# Altium schematic symbol library WR-MPC3.SchLib: 235 symbols (part 1 of 5)
Pins are listed as number, name and electrical type; pins without a type are passive.

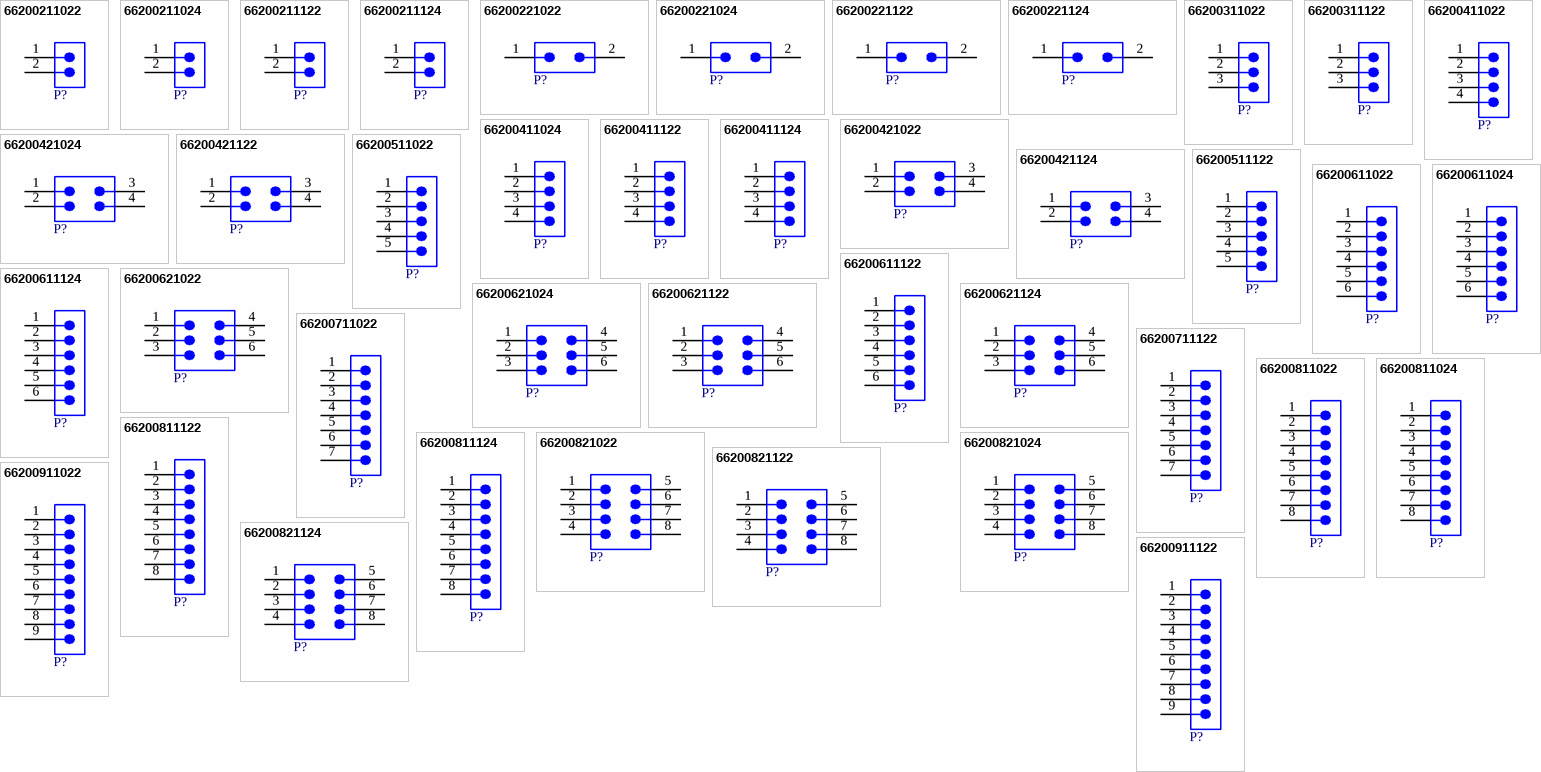
[diagram p0: symbols 66200211022 to 66200911122]

## 66200211022
designator P?  (value not drawn)
WR-MPC3 THT Male Right Angled Header with Plastic Pegs, pitch 3mm, 2p; Manufacturer: Wurth Elektronik; Contact Resistance: 10mOhm; Insulation Resistance: >1000MOhm; Rated Current: 5A; Working Voltage: 250V (AC); Manufacturer Part Number: 66200211022; Category: Wire-to-Board Connectors; Match Code: WR-MPC3; ComponentLink1Description: Website Link; ComponentLink1URL: https://www.we-online.com/redexpert/article/66200211022?ad; ComponentLink2Description: Datasheet Link; ComponentLink2URL: https://www.we-online.com/redexpert/spec/66200211022?ad; Mount: Through Hole; Operating Temperature Max: 105°C; Operating Temperature Min: -40°C; Packaging: Tube; Length: 9.65mm; Width: 9.9mm; Height: 5.57mm; Gender: Male; Number of Pins: 2; Number of Rows: 1; Orientation: Right Angled; Pitch: 3mm
footprint 66200211022
pins: 1, 2

## 66200211024
designator P?  (value not drawn)
WR-MPC3 THT Male Header Single Row Right Angled with Plastic Pegs (Selective Gold), pitch 3mm, 2p; Manufacturer: Wurth Elektronik; Contact Resistance: 10mOhm; Insulation Resistance: >1000MOhm; Rated Current: 5A; Working Voltage: 250V (AC); Manufacturer Part Number: 66200211024; Category: Wire-to-Board Connectors; Match Code: WR-MPC3; ComponentLink1Description: Website Link; ComponentLink1URL: https://www.we-online.com/redexpert/article/66200211024?ad; ComponentLink2Description: Datasheet Link; ComponentLink2URL: https://www.we-online.com/redexpert/spec/66200211024?ad; Mount: Through Hole; Operating Temperature Max: 105°C; Operating Temperature Min: -40°C; Packaging: Tube; Gender: Male; Number of Pins: 2; Number of Rows: 1; Orientation: Right Angled; Pitch: 3mm
footprint 66200211024
pins: 1, 2

## 66200211122
designator P?  (value not drawn)
WR-MPC3 THT Male Vertical Header, pitch 3mm, 2p; Manufacturer: Wurth Elektronik; Contact Resistance: 10mOhm; Insulation Resistance: >1000MOhm; Rated Current: 5A; Working Voltage: 250V (AC); Manufacturer Part Number: 66200211122; Category: Wire-to-Board Connectors; Match Code: WR-MPC3; ComponentLink1Description: Website Link; ComponentLink1URL: https://www.we-online.com/redexpert/article/66200211122?ad; ComponentLink2Description: Datasheet Link; ComponentLink2URL: https://www.we-online.com/redexpert/spec/66200211122?ad; Mount: Through Hole; Operating Temperature Max: 105°C; Operating Temperature Min: -40°C; Packaging: Tube; Length: 9.65mm; Width: 5.57mm; Height: 11mm; Gender: Male; Number of Pins: 2; Number of Rows: 1; Orientation: Vertical; Pitch: 3mm
footprint 66200211122
pins: 1, 2

## 66200211124
designator P?  (value not drawn)
WR-MPC3 THT Male Header Single Row Vertical (Selective Gold), pitch 3mm, 2p; Manufacturer: Wurth Elektronik; Contact Resistance: 10mOhm; Insulation Resistance: >1000MOhm; Rated Current: 5A; Working Voltage: 250V (AC); Manufacturer Part Number: 66200211124; Category: Wire-to-Board Connectors; Match Code: WR-MPC3; ComponentLink1Description: Website Link; ComponentLink1URL: https://www.we-online.com/redexpert/article/66200211124?ad; ComponentLink2Description: Datasheet Link; ComponentLink2URL: https://www.we-online.com/redexpert/spec/66200211124?ad; Mount: Through Hole; Operating Temperature Max: 105°C; Operating Temperature Min: -40°C; Packaging: Tube; Gender: Male; Number of Pins: 2; Number of Rows: 1; Orientation: Vertical; Pitch: 3mm
footprint 66200211124
pins: 1, 2

## 66200221022
designator P?  (value not drawn)
WR-MPC3 THT Male Right Angled Header with Plastic Pegs, pitch 3mm, 2p; Manufacturer: Wurth Elektronik; Contact Resistance: 10mOhm; Insulation Resistance: >1000MOhm; Rated Current: 5A; Working Voltage: 250V (AC); Manufacturer Part Number: 66200221022; Category: Wire-to-Board Connectors; Match Code: WR-MPC3; ComponentLink1Description: Website Link; ComponentLink1URL: https://www.we-online.com/redexpert/article/66200221022?ad; ComponentLink2Description: Datasheet Link; ComponentLink2URL: https://www.we-online.com/redexpert/spec/66200221022?ad; Mount: Through Hole; Operating Temperature Max: 105°C; Operating Temperature Min: -40°C; Packaging: Tube; Length: 6.7mm; Width: 9.9mm; Height: 8.76mm; Gender: Male; Number of Pins: 2; Number of Rows: 2; Orientation: Right Angled; Pitch: 3mm
footprint 66200221022
pins: 1, 2

## 66200221024
designator P?  (value not drawn)
WR-MPC3 THT Male Header Dual Row Right Angled with Plastic Pegs (Selective Gold), pitch 3mm, 2p; Manufacturer: Wurth Elektronik; Contact Resistance: 10mOhm; Insulation Resistance: >1000MOhm; Rated Current: 5A; Working Voltage: 250V (AC); Manufacturer Part Number: 66200221024; Category: Wire-to-Board Connectors; Match Code: WR-MPC3; ComponentLink1Description: Website Link; ComponentLink1URL: https://www.we-online.com/redexpert/article/66200221024?ad; ComponentLink2Description: Datasheet Link; ComponentLink2URL: https://www.we-online.com/redexpert/spec/66200221024?ad; Mount: Through Hole; Operating Temperature Max: 105°C; Operating Temperature Min: -40°C; Packaging: Tube; Gender: Male; Number of Pins: 2; Number of Rows: 2; Orientation: Right Angled; Pitch: 3mm
footprint 66200221024
pins: 1, 2

## 66200221122
designator P?  (value not drawn)
WR-MPC3 THT Male Vertical Header, pitch 3mm, 2p; Manufacturer: Wurth Elektronik; Contact Resistance: 10mOhm; Insulation Resistance: >1000MOhm; Rated Current: 5A; Working Voltage: 250V (AC); Manufacturer Part Number: 66200221122; Category: Wire-to-Board Connectors; Match Code: WR-MPC3; ComponentLink1Description: Website Link; ComponentLink1URL: https://www.we-online.com/redexpert/article/66200221122?ad; ComponentLink2Description: Datasheet Link; ComponentLink2URL: https://www.we-online.com/redexpert/spec/66200221122?ad; Mount: Through Hole; Operating Temperature Max: 105°C; Operating Temperature Min: -40°C; Packaging: Tube; Length: 6.7mm; Width: 8.76mm; Height: 11.05mm; Gender: Male; Number of Pins: 2; Number of Rows: 2; Orientation: Vertical; Pitch: 3mm
footprint 66200221122
pins: 1, 2

## 66200221124
designator P?  (value not drawn)
WR-MPC3 THT Male Header Dual Row Vertical (Selective Gold), pitch 3mm, 2p; Manufacturer: Wurth Elektronik; Contact Resistance: 10mOhm; Insulation Resistance: >1000MOhm; Rated Current: 5A; Working Voltage: 250V (AC); Manufacturer Part Number: 66200221124; Category: Wire-to-Board Connectors; Match Code: WR-MPC3; ComponentLink1Description: Website Link; ComponentLink1URL: https://www.we-online.com/redexpert/article/66200221124?ad; ComponentLink2Description: Datasheet Link; ComponentLink2URL: https://www.we-online.com/redexpert/spec/66200221124?ad; Mount: Through Hole; Operating Temperature Max: 105°C; Operating Temperature Min: -40°C; Packaging: Tube; Gender: Male; Number of Pins: 2; Number of Rows: 2; Orientation: Vertical; Pitch: 3mm
footprint 66200221124
pins: 1, 2

## 66200311022
designator P?  (value not drawn)
WR-MPC3 THT Male Right Angled Header with Plastic Pegs, pitch 3mm, 3p; Manufacturer: Wurth Elektronik; Contact Resistance: 10mOhm; Insulation Resistance: >1000MOhm; Rated Current: 5A; Working Voltage: 250V (AC); Manufacturer Part Number: 66200311022; Category: Wire-to-Board Connectors; Match Code: WR-MPC3; ComponentLink1Description: Website Link; ComponentLink1URL: https://www.we-online.com/redexpert/article/66200311022?ad; ComponentLink2Description: Datasheet Link; ComponentLink2URL: https://www.we-online.com/redexpert/spec/66200311022?ad; Mount: Through Hole; Operating Temperature Max: 105°C; Operating Temperature Min: -40°C; Packaging: Tube; Length: 12.65mm; Width: 9.9mm; Height: 5.57mm; Gender: Male; Number of Pins: 3; Number of Rows: 1; Orientation: Right Angled; Pitch: 3mm
footprint 66200311022
pins: 1, 2, 3

## 66200311122
designator P?  (value not drawn)
WR-MPC3 THT Male Vertical Header, pitch 3mm, 3p; Manufacturer: Wurth Elektronik; Contact Resistance: 10mOhm; Insulation Resistance: >1000MOhm; Rated Current: 5A; Working Voltage: 250V (AC); Manufacturer Part Number: 66200311122; Category: Wire-to-Board Connectors; Match Code: WR-MPC3; ComponentLink1Description: Website Link; ComponentLink1URL: https://www.we-online.com/redexpert/article/66200311122?ad; ComponentLink2Description: Datasheet Link; ComponentLink2URL: https://www.we-online.com/redexpert/spec/66200311122?ad; Mount: Through Hole; Operating Temperature Max: 105°C; Operating Temperature Min: -40°C; Packaging: Tube; Length: 12.65mm; Width: 5.57mm; Height: 11mm; Gender: Male; Number of Pins: 3; Number of Rows: 1; Orientation: Vertical; Pitch: 3mm
footprint 66200311122
pins: 1, 2, 3

## 66200411022
designator P?  (value not drawn)
WR-MPC3 THT Male Right Angled Header with Plastic Pegs, pitch 3mm, 4p; Manufacturer: Wurth Elektronik; Contact Resistance: 10mOhm; Insulation Resistance: >1000MOhm; Rated Current: 5A; Working Voltage: 250V (AC); Manufacturer Part Number: 66200411022; Category: Wire-to-Board Connectors; Match Code: WR-MPC3; ComponentLink1Description: Website Link; ComponentLink1URL: https://www.we-online.com/redexpert/article/66200411022?ad; ComponentLink2Description: Datasheet Link; ComponentLink2URL: https://www.we-online.com/redexpert/spec/66200411022?ad; Mount: Through Hole; Operating Temperature Max: 105°C; Operating Temperature Min: -40°C; Packaging: Tube; Length: 15.65mm; Width: 9.9mm; Height: 5.57mm; Gender: Male; Number of Pins: 4; Number of Rows: 1; Orientation: Right Angled; Pitch: 3mm
footprint 66200411022
pins: 1, 2, 3, 4

## 66200411024
designator P?  (value not drawn)
WR-MPC3 THT Male Header Single Row Right Angled with Plastic Pegs (Selective Gold), pitch 3mm, 4p; Manufacturer: Wurth Elektronik; Contact Resistance: 10mOhm; Insulation Resistance: >1000MOhm; Rated Current: 5A; Working Voltage: 250V (AC); Manufacturer Part Number: 66200411024; Category: Wire-to-Board Connectors; Match Code: WR-MPC3; ComponentLink1Description: Website Link; ComponentLink1URL: https://www.we-online.com/redexpert/article/66200411024?ad; ComponentLink2Description: Datasheet Link; ComponentLink2URL: https://www.we-online.com/redexpert/spec/66200411024?ad; Mount: Through Hole; Operating Temperature Max: 105°C; Operating Temperature Min: -40°C; Packaging: Tube; Gender: Male; Number of Pins: 4; Number of Rows: 1; Orientation: Right Angled; Pitch: 3mm
footprint 66200411024
pins: 1, 2, 3, 4

## 66200411122
designator P?  (value not drawn)
WR-MPC3 THT Male Vertical Header, pitch 3mm, 4p; Manufacturer: Wurth Elektronik; Contact Resistance: 10mOhm; Insulation Resistance: >1000MOhm; Rated Current: 5A; Working Voltage: 250V (AC); Manufacturer Part Number: 66200411122; Category: Wire-to-Board Connectors; Match Code: WR-MPC3; ComponentLink1Description: Website Link; ComponentLink1URL: https://www.we-online.com/redexpert/article/66200411122?ad; ComponentLink2Description: Datasheet Link; ComponentLink2URL: https://www.we-online.com/redexpert/spec/66200411122?ad; Mount: Through Hole; Operating Temperature Max: 105°C; Operating Temperature Min: -40°C; Packaging: Tube; Length: 15.65mm; Width: 5.57mm; Height: 11mm; Gender: Male; Number of Pins: 4; Number of Rows: 1; Orientation: Vertical; Pitch: 3mm
footprint 66200411122
pins: 1, 2, 3, 4

## 66200411124
designator P?  (value not drawn)
WR-MPC3 THT Male Header Single Row Vertical (Selective Gold), pitch 3mm, 4p; Manufacturer: Wurth Elektronik; Contact Resistance: 10mOhm; Insulation Resistance: >1000MOhm; Rated Current: 5A; Working Voltage: 250V (AC); Manufacturer Part Number: 66200411124; Category: Wire-to-Board Connectors; Match Code: WR-MPC3; ComponentLink1Description: Website Link; ComponentLink1URL: https://www.we-online.com/redexpert/article/66200411124?ad; ComponentLink2Description: Datasheet Link; ComponentLink2URL: https://www.we-online.com/redexpert/spec/66200411124?ad; Mount: Through Hole; Operating Temperature Max: 105°C; Operating Temperature Min: -40°C; Packaging: Tube; Gender: Male; Number of Pins: 4; Number of Rows: 1; Orientation: Vertical; Pitch: 3mm
footprint 66200411124
pins: 1, 2, 3, 4

## 66200421022
designator P?  (value not drawn)
WR-MPC3 THT Male Right Angled Header with Plastic Pegs, pitch 3mm, 4p; Manufacturer: Wurth Elektronik; Contact Resistance: 10mOhm; Insulation Resistance: >1000MOhm; Rated Current: 5A; Working Voltage: 250V (AC); Manufacturer Part Number: 66200421022; Category: Wire-to-Board Connectors; Match Code: WR-MPC3; ComponentLink1Description: Website Link; ComponentLink1URL: https://www.we-online.com/redexpert/article/66200421022?ad; ComponentLink2Description: Datasheet Link; ComponentLink2URL: https://www.we-online.com/redexpert/spec/66200421022?ad; Mount: Through Hole; Operating Temperature Max: 105°C; Operating Temperature Min: -40°C; Packaging: Tube; Length: 9.7mm; Width: 9.9mm; Height: 8.76mm; Gender: Male; Number of Pins: 4; Number of Rows: 2; Orientation: Right Angled; Pitch: 3mm
footprint 66200421022
pins: 1, 2, 3, 4

## 66200421024
designator P?  (value not drawn)
WR-MPC3 THT Male Header Dual Row Right Angled with Plastic Pegs (Selective Gold), pitch 3mm, 4p; Manufacturer: Wurth Elektronik; Contact Resistance: 10mOhm; Insulation Resistance: >1000MOhm; Rated Current: 5A; Working Voltage: 250V (AC); Manufacturer Part Number: 66200421024; Category: Wire-to-Board Connectors; Match Code: WR-MPC3; ComponentLink1Description: Website Link; ComponentLink1URL: https://www.we-online.com/redexpert/article/66200421024?ad; ComponentLink2Description: Datasheet Link; ComponentLink2URL: https://www.we-online.com/redexpert/spec/66200421024?ad; Mount: Through Hole; Operating Temperature Max: 105°C; Operating Temperature Min: -40°C; Packaging: Tube; Gender: Male; Number of Pins: 4; Number of Rows: 2; Orientation: Right Angled; Pitch: 3mm
footprint 66200421024
pins: 1, 2, 3, 4

## 66200421122
designator P?  (value not drawn)
WR-MPC3 THT Male Vertical Header, pitch 3mm, 4p; Manufacturer: Wurth Elektronik; Contact Resistance: 10mOhm; Insulation Resistance: >1000MOhm; Rated Current: 5A; Working Voltage: 250V (AC); Manufacturer Part Number: 66200421122; Category: Wire-to-Board Connectors; Match Code: WR-MPC3; ComponentLink1Description: Website Link; ComponentLink1URL: https://www.we-online.com/redexpert/article/66200421122?ad; ComponentLink2Description: Datasheet Link; ComponentLink2URL: https://www.we-online.com/redexpert/spec/66200421122?ad; Mount: Through Hole; Operating Temperature Max: 105°C; Operating Temperature Min: -40°C; Packaging: Tube; Length: 9.7mm; Width: 8.76mm; Height: 11.05mm; Gender: Male; Number of Pins: 4; Number of Rows: 2; Orientation: Vertical; Pitch: 3mm
footprint 66200421122
pins: 1, 2, 3, 4

## 66200421124
designator P?  (value not drawn)
WR-MPC3 THT Male Header Dual Row Vertical (Selective Gold), pitch 3mm, 4p; Manufacturer: Wurth Elektronik; Contact Resistance: 10mOhm; Insulation Resistance: >1000MOhm; Rated Current: 5A; Working Voltage: 250V (AC); Manufacturer Part Number: 66200421124; Category: Wire-to-Board Connectors; Match Code: WR-MPC3; ComponentLink1Description: Website Link; ComponentLink1URL: https://www.we-online.com/redexpert/article/66200421124?ad; ComponentLink2Description: Datasheet Link; ComponentLink2URL: https://www.we-online.com/redexpert/spec/66200421124?ad; Mount: Through Hole; Operating Temperature Max: 105°C; Operating Temperature Min: -40°C; Packaging: Tube; Gender: Male; Number of Pins: 4; Number of Rows: 2; Orientation: Vertical; Pitch: 3mm
footprint 66200421124
pins: 1, 2, 3, 4

## 66200511022
designator P?  (value not drawn)
WR-MPC3 THT Male Right Angled Header with Plastic Pegs, pitch 3mm, 5p; Manufacturer: Wurth Elektronik; Contact Resistance: 10mOhm; Insulation Resistance: >1000MOhm; Rated Current: 5A; Working Voltage: 250V (AC); Manufacturer Part Number: 66200511022; Category: Wire-to-Board Connectors; Match Code: WR-MPC3; ComponentLink1Description: Website Link; ComponentLink1URL: https://www.we-online.com/redexpert/article/66200511022?ad; ComponentLink2Description: Datasheet Link; ComponentLink2URL: https://www.we-online.com/redexpert/spec/66200511022?ad; Mount: Through Hole; Operating Temperature Max: 105°C; Operating Temperature Min: -40°C; Packaging: Tube; Length: 18.65mm; Width: 9.9mm; Height: 5.57mm; Gender: Male; Number of Pins: 5; Number of Rows: 1; Orientation: Right Angled; Pitch: 3mm
footprint 66200511022
pins: 1, 2, 3, 4, 5

## 66200511122
designator P?  (value not drawn)
WR-MPC3 THT Male Vertical Header, pitch 3mm, 5p; Manufacturer: Wurth Elektronik; Contact Resistance: 10mOhm; Insulation Resistance: >1000MOhm; Rated Current: 5A; Working Voltage: 250V (AC); Manufacturer Part Number: 66200511122; Category: Wire-to-Board Connectors; Match Code: WR-MPC3; ComponentLink1Description: Website Link; ComponentLink1URL: https://www.we-online.com/redexpert/article/66200511122?ad; ComponentLink2Description: Datasheet Link; ComponentLink2URL: https://www.we-online.com/redexpert/spec/66200511122?ad; Mount: Through Hole; Operating Temperature Max: 105°C; Operating Temperature Min: -40°C; Packaging: Tube; Length: 18.65mm; Width: 5.57mm; Height: 11mm; Gender: Male; Number of Pins: 5; Number of Rows: 1; Orientation: Vertical; Pitch: 3mm
footprint 66200511122
pins: 1, 2, 3, 4, 5

## 66200611022
designator P?  (value not drawn)
WR-MPC3 THT Male Right Angled Header with Plastic Pegs, pitch 3mm, 6p; Manufacturer: Wurth Elektronik; Contact Resistance: 10mOhm; Insulation Resistance: >1000MOhm; Rated Current: 5A; Working Voltage: 250V (AC); Manufacturer Part Number: 66200611022; Category: Wire-to-Board Connectors; Match Code: WR-MPC3; ComponentLink1Description: Website Link; ComponentLink1URL: https://www.we-online.com/redexpert/article/66200611022?ad; ComponentLink2Description: Datasheet Link; ComponentLink2URL: https://www.we-online.com/redexpert/spec/66200611022?ad; Mount: Through Hole; Operating Temperature Max: 105°C; Operating Temperature Min: -40°C; Packaging: Tube; Length: 21.65mm; Width: 9.9mm; Height: 5.57mm; Gender: Male; Number of Pins: 6; Number of Rows: 1; Orientation: Right Angled; Pitch: 3mm
footprint 66200611022
pins: 1, 2, 3, 4, 5, 6

## 66200611024
designator P?  (value not drawn)
WR-MPC3 THT Male Header Single Row Right Angled with Plastic Pegs (Selective Gold), pitch 3mm, 6p; Manufacturer: Wurth Elektronik; Contact Resistance: 10mOhm; Insulation Resistance: >1000MOhm; Rated Current: 5A; Working Voltage: 250V (AC); Manufacturer Part Number: 66200611024; Category: Wire-to-Board Connectors; Match Code: WR-MPC3; ComponentLink1Description: Website Link; ComponentLink1URL: https://www.we-online.com/redexpert/article/66200611024?ad; ComponentLink2Description: Datasheet Link; ComponentLink2URL: https://www.we-online.com/redexpert/spec/66200611024?ad; Mount: Through Hole; Operating Temperature Max: 105°C; Operating Temperature Min: -40°C; Packaging: Tube; Gender: Male; Number of Pins: 6; Number of Rows: 1; Orientation: Right Angled; Pitch: 3mm
footprint 66200611024
pins: 1, 2, 3, 4, 5, 6

## 66200611122
designator P?  (value not drawn)
WR-MPC3 THT Male Vertical Header, pitch 3mm, 6p; Manufacturer: Wurth Elektronik; Contact Resistance: 10mOhm; Insulation Resistance: >1000MOhm; Rated Current: 5A; Working Voltage: 250V (AC); Manufacturer Part Number: 66200611122; Category: Wire-to-Board Connectors; Match Code: WR-MPC3; ComponentLink1Description: Website Link; ComponentLink1URL: https://www.we-online.com/redexpert/article/66200611122?ad; ComponentLink2Description: Datasheet Link; ComponentLink2URL: https://www.we-online.com/redexpert/spec/66200611122?ad; Mount: Through Hole; Operating Temperature Max: 105°C; Operating Temperature Min: -40°C; Packaging: Tube; Length: 21.65mm; Width: 5.57mm; Height: 11mm; Gender: Male; Number of Pins: 6; Number of Rows: 1; Orientation: Vertical; Pitch: 3mm
footprint 66200611122
pins: 1, 2, 3, 4, 5, 6

## 66200611124
designator P?  (value not drawn)
WR-MPC3 THT Male Header Single Row Vertical (Selective Gold), pitch 3mm, 6p; Manufacturer: Wurth Elektronik; Contact Resistance: 10mOhm; Insulation Resistance: >1000MOhm; Rated Current: 5A; Working Voltage: 250V (AC); Manufacturer Part Number: 66200611124; Category: Wire-to-Board Connectors; Match Code: WR-MPC3; ComponentLink1Description: Website Link; ComponentLink1URL: https://www.we-online.com/redexpert/article/66200611124?ad; ComponentLink2Description: Datasheet Link; ComponentLink2URL: https://www.we-online.com/redexpert/spec/66200611124?ad; Mount: Through Hole; Operating Temperature Max: 105°C; Operating Temperature Min: -40°C; Packaging: Tube; Gender: Male; Number of Pins: 6; Number of Rows: 1; Orientation: Vertical; Pitch: 3mm
footprint 66200611124
pins: 1, 2, 3, 4, 5, 6

## 66200621022
designator P?  (value not drawn)
WR-MPC3 THT Male Right Angled Header with Plastic Pegs, pitch 3mm, 6p; Manufacturer: Wurth Elektronik; Contact Resistance: 10mOhm; Insulation Resistance: >1000MOhm; Rated Current: 5A; Working Voltage: 250V (AC); Manufacturer Part Number: 66200621022; Category: Wire-to-Board Connectors; Match Code: WR-MPC3; ComponentLink1Description: Website Link; ComponentLink1URL: https://www.we-online.com/redexpert/article/66200621022?ad; ComponentLink2Description: Datasheet Link; ComponentLink2URL: https://www.we-online.com/redexpert/spec/66200621022?ad; Mount: Through Hole; Operating Temperature Max: 105°C; Operating Temperature Min: -40°C; Packaging: Tube; Length: 12.7mm; Width: 9.9mm; Height: 8.76mm; Gender: Male; Number of Pins: 6; Number of Rows: 2; Orientation: Right Angled; Pitch: 3mm
footprint 66200621022
pins: 1, 2, 3, 4, 5, 6

## 66200621024
designator P?  (value not drawn)
WR-MPC3 THT Male Header Dual Row Right Angled with Plastic Pegs (Selective Gold), pitch 3mm, 6p; Manufacturer: Wurth Elektronik; Contact Resistance: 10mOhm; Insulation Resistance: >1000MOhm; Rated Current: 5A; Working Voltage: 250V (AC); Manufacturer Part Number: 66200621024; Category: Wire-to-Board Connectors; Match Code: WR-MPC3; ComponentLink1Description: Website Link; ComponentLink1URL: https://www.we-online.com/redexpert/article/66200621024?ad; ComponentLink2Description: Datasheet Link; ComponentLink2URL: https://www.we-online.com/redexpert/spec/66200621024?ad; Mount: Through Hole; Operating Temperature Max: 105°C; Operating Temperature Min: -40°C; Packaging: Tube; Gender: Male; Number of Pins: 6; Number of Rows: 2; Orientation: Right Angled; Pitch: 3mm
footprint 66200621024
pins: 1, 2, 3, 4, 5, 6

## 66200621122
designator P?  (value not drawn)
WR-MPC3 THT Male Vertical Header, pitch 3mm, 6p; Manufacturer: Wurth Elektronik; Contact Resistance: 10mOhm; Insulation Resistance: >1000MOhm; Rated Current: 5A; Working Voltage: 250V (AC); Manufacturer Part Number: 66200621122; Category: Wire-to-Board Connectors; Match Code: WR-MPC3; ComponentLink1Description: Website Link; ComponentLink1URL: https://www.we-online.com/redexpert/article/66200621122?ad; ComponentLink2Description: Datasheet Link; ComponentLink2URL: https://www.we-online.com/redexpert/spec/66200621122?ad; Mount: Through Hole; Operating Temperature Max: 105°C; Operating Temperature Min: -40°C; Packaging: Tube; Length: 12.7mm; Width: 8.76mm; Height: 11.05mm; Gender: Male; Number of Pins: 6; Number of Rows: 2; Orientation: Vertical; Pitch: 3mm
footprint 66200621122
pins: 1, 2, 3, 4, 5, 6

## 66200621124
designator P?  (value not drawn)
WR-MPC3 THT Male Header Dual Row Vertical (Selective Gold), pitch 3mm, 6p; Manufacturer: Wurth Elektronik; Contact Resistance: 10mOhm; Insulation Resistance: >1000MOhm; Rated Current: 5A; Working Voltage: 250V (AC); Manufacturer Part Number: 66200621124; Category: Wire-to-Board Connectors; Match Code: WR-MPC3; ComponentLink1Description: Website Link; ComponentLink1URL: https://www.we-online.com/redexpert/article/66200621124?ad; ComponentLink2Description: Datasheet Link; ComponentLink2URL: https://www.we-online.com/redexpert/spec/66200621124?ad; Mount: Through Hole; Operating Temperature Max: 105°C; Operating Temperature Min: -40°C; Packaging: Tube; Gender: Male; Number of Pins: 6; Number of Rows: 2; Orientation: Vertical; Pitch: 3mm
footprint 66200621124
pins: 1, 2, 3, 4, 5, 6

## 66200711022
designator P?  (value not drawn)
WR-MPC3 THT Male Right Angled Header with Plastic Pegs, pitch 3mm, 7p; Manufacturer: Wurth Elektronik; Contact Resistance: 10mOhm; Insulation Resistance: >1000MOhm; Rated Current: 5A; Working Voltage: 250V (AC); Manufacturer Part Number: 66200711022; Category: Wire-to-Board Connectors; Match Code: WR-MPC3; ComponentLink1Description: Website Link; ComponentLink1URL: https://www.we-online.com/redexpert/article/66200711022?ad; ComponentLink2Description: Datasheet Link; ComponentLink2URL: https://www.we-online.com/redexpert/spec/66200711022?ad; Mount: Through Hole; Operating Temperature Max: 105°C; Operating Temperature Min: -40°C; Packaging: Tube; Length: 24.65mm; Width: 9.9mm; Height: 5.57mm; Gender: Male; Number of Pins: 7; Number of Rows: 1; Orientation: Right Angled; Pitch: 3mm
footprint 66200711022
pins: 1, 2, 3, 4, 5, 6, 7

## 66200711122
designator P?  (value not drawn)
WR-MPC3 THT Male Vertical Header, pitch 3mm, 7p; Manufacturer: Wurth Elektronik; Contact Resistance: 10mOhm; Insulation Resistance: >1000MOhm; Rated Current: 5A; Working Voltage: 250V (AC); Manufacturer Part Number: 66200711122; Category: Wire-to-Board Connectors; Match Code: WR-MPC3; ComponentLink1Description: Website Link; ComponentLink1URL: https://www.we-online.com/redexpert/article/66200711122?ad; ComponentLink2Description: Datasheet Link; ComponentLink2URL: https://www.we-online.com/redexpert/spec/66200711122?ad; Mount: Through Hole; Operating Temperature Max: 105°C; Operating Temperature Min: -40°C; Packaging: Tube; Length: 24.65mm; Width: 5.57mm; Height: 11mm; Gender: Male; Number of Pins: 7; Number of Rows: 1; Orientation: Vertical; Pitch: 3mm
footprint 66200711122
pins: 1, 2, 3, 4, 5, 6, 7

## 66200811022
designator P?  (value not drawn)
WR-MPC3 THT Male Right Angled Header with Plastic Pegs, pitch 3mm, 8p; Manufacturer: Wurth Elektronik; Contact Resistance: 10mOhm; Insulation Resistance: >1000MOhm; Rated Current: 5A; Working Voltage: 250V (AC); Manufacturer Part Number: 66200811022; Category: Wire-to-Board Connectors; Match Code: WR-MPC3; ComponentLink1Description: Website Link; ComponentLink1URL: https://www.we-online.com/redexpert/article/66200811022?ad; ComponentLink2Description: Datasheet Link; ComponentLink2URL: https://www.we-online.com/redexpert/spec/66200811022?ad; Mount: Through Hole; Operating Temperature Max: 105°C; Operating Temperature Min: -40°C; Packaging: Tube; Length: 27.65mm; Width: 9.9mm; Height: 5.57mm; Gender: Male; Number of Pins: 8; Number of Rows: 1; Orientation: Right Angled; Pitch: 3mm
footprint 66200811022
pins: 1, 2, 3, 4, 5, 6, 7, 8

## 66200811024
designator P?  (value not drawn)
WR-MPC3 THT Male Header Single Row Right Angled with Plastic Pegs (Selective Gold), pitch 3mm, 8p; Manufacturer: Wurth Elektronik; Contact Resistance: 10mOhm; Insulation Resistance: >1000MOhm; Rated Current: 5A; Working Voltage: 250V (AC); Manufacturer Part Number: 66200811024; Category: Wire-to-Board Connectors; Match Code: WR-MPC3; ComponentLink1Description: Website Link; ComponentLink1URL: https://www.we-online.com/redexpert/article/66200811024?ad; ComponentLink2Description: Datasheet Link; ComponentLink2URL: https://www.we-online.com/redexpert/spec/66200811024?ad; Mount: Through Hole; Operating Temperature Max: 105°C; Operating Temperature Min: -40°C; Packaging: Tube; Gender: Male; Number of Pins: 8; Number of Rows: 1; Orientation: Right Angled; Pitch: 3mm
footprint 66200811024
pins: 1, 2, 3, 4, 5, 6, 7, 8

## 66200811122
designator P?  (value not drawn)
WR-MPC3 THT Male Vertical Header, pitch 3mm, 8p; Manufacturer: Wurth Elektronik; Contact Resistance: 10mOhm; Insulation Resistance: >1000MOhm; Rated Current: 5A; Working Voltage: 250V (AC); Manufacturer Part Number: 66200811122; Category: Wire-to-Board Connectors; Match Code: WR-MPC3; ComponentLink1Description: Website Link; ComponentLink1URL: https://www.we-online.com/redexpert/article/66200811122?ad; ComponentLink2Description: Datasheet Link; ComponentLink2URL: https://www.we-online.com/redexpert/spec/66200811122?ad; Mount: Through Hole; Operating Temperature Max: 105°C; Operating Temperature Min: -40°C; Packaging: Tube; Length: 27.65mm; Width: 5.57mm; Height: 11mm; Gender: Male; Number of Pins: 8; Number of Rows: 1; Orientation: Vertical; Pitch: 3mm
footprint 66200811122
pins: 1, 2, 3, 4, 5, 6, 7, 8

## 66200811124
designator P?  (value not drawn)
WR-MPC3 THT Male Header Single Row Vertical (Selective Gold), pitch 3mm, 8p; Manufacturer: Wurth Elektronik; Contact Resistance: 10mOhm; Insulation Resistance: >1000MOhm; Rated Current: 5A; Working Voltage: 250V (AC); Manufacturer Part Number: 66200811124; Category: Wire-to-Board Connectors; Match Code: WR-MPC3; ComponentLink1Description: Website Link; ComponentLink1URL: https://www.we-online.com/redexpert/article/66200811124?ad; ComponentLink2Description: Datasheet Link; ComponentLink2URL: https://www.we-online.com/redexpert/spec/66200811124?ad; Mount: Through Hole; Operating Temperature Max: 105°C; Operating Temperature Min: -40°C; Packaging: Tube; Gender: Male; Number of Pins: 8; Number of Rows: 1; Orientation: Vertical; Pitch: 3mm
footprint 66200811124
pins: 1, 2, 3, 4, 5, 6, 7, 8

## 66200821022
designator P?  (value not drawn)
WR-MPC3 THT Male Right Angled Header with Plastic Pegs, pitch 3mm, 8p; Manufacturer: Wurth Elektronik; Contact Resistance: 10mOhm; Insulation Resistance: >1000MOhm; Rated Current: 5A; Working Voltage: 250V (AC); Manufacturer Part Number: 66200821022; Category: Wire-to-Board Connectors; Match Code: WR-MPC3; ComponentLink1Description: Website Link; ComponentLink1URL: https://www.we-online.com/redexpert/article/66200821022?ad; ComponentLink2Description: Datasheet Link; ComponentLink2URL: https://www.we-online.com/redexpert/spec/66200821022?ad; Mount: Through Hole; Operating Temperature Max: 105°C; Operating Temperature Min: -40°C; Packaging: Tube; Length: 15.7mm; Width: 9.9mm; Height: 8.76mm; Gender: Male; Number of Pins: 8; Number of Rows: 2; Orientation: Right Angled; Pitch: 3mm
footprint 66200821022
pins: 1, 2, 3, 4, 5, 6, 7, 8

## 66200821024
designator P?  (value not drawn)
WR-MPC3 THT Male Header Dual Row Right Angled with Plastic Pegs (Selective Gold), pitch 3mm, 8p; Manufacturer: Wurth Elektronik; Contact Resistance: 10mOhm; Insulation Resistance: >1000MOhm; Rated Current: 5A; Working Voltage: 250V (AC); Manufacturer Part Number: 66200821024; Category: Wire-to-Board Connectors; Match Code: WR-MPC3; ComponentLink1Description: Website Link; ComponentLink1URL: https://www.we-online.com/redexpert/article/66200821024?ad; ComponentLink2Description: Datasheet Link; ComponentLink2URL: https://www.we-online.com/redexpert/spec/66200821024?ad; Mount: Through Hole; Operating Temperature Max: 105°C; Operating Temperature Min: -40°C; Packaging: Tube; Gender: Male; Number of Pins: 8; Number of Rows: 2; Orientation: Right Angled; Pitch: 3mm
footprint 66200821024
pins: 1, 2, 3, 4, 5, 6, 7, 8

## 66200821122
designator P?  (value not drawn)
WR-MPC3 THT Male Vertical Header, pitch 3mm, 8p; Manufacturer: Wurth Elektronik; Contact Resistance: 10mOhm; Insulation Resistance: >1000MOhm; Rated Current: 5A; Working Voltage: 250V (AC); Manufacturer Part Number: 66200821122; Category: Wire-to-Board Connectors; Match Code: WR-MPC3; ComponentLink1Description: Website Link; ComponentLink1URL: https://www.we-online.com/redexpert/article/66200821122?ad; ComponentLink2Description: Datasheet Link; ComponentLink2URL: https://www.we-online.com/redexpert/spec/66200821122?ad; Mount: Through Hole; Operating Temperature Max: 105°C; Operating Temperature Min: -40°C; Packaging: Tube; Length: 15.7mm; Width: 8.76mm; Height: 11.05mm; Gender: Male; Number of Pins: 8; Number of Rows: 2; Orientation: Vertical; Pitch: 3mm
footprint 66200821122
pins: 1, 2, 3, 4, 5, 6, 7, 8

## 66200821124
designator P?  (value not drawn)
WR-MPC3 THT Male Header Dual Row Vertical (Selective Gold), pitch 3mm, 8p; Manufacturer: Wurth Elektronik; Contact Resistance: 10mOhm; Insulation Resistance: >1000MOhm; Rated Current: 5A; Working Voltage: 250V (AC); Manufacturer Part Number: 66200821124; Category: Wire-to-Board Connectors; Match Code: WR-MPC3; ComponentLink1Description: Website Link; ComponentLink1URL: https://www.we-online.com/redexpert/article/66200821124?ad; ComponentLink2Description: Datasheet Link; ComponentLink2URL: https://www.we-online.com/redexpert/spec/66200821124?ad; Mount: Through Hole; Operating Temperature Max: 105°C; Operating Temperature Min: -40°C; Packaging: Tube; Gender: Male; Number of Pins: 8; Number of Rows: 2; Orientation: Vertical; Pitch: 3mm
footprint 66200821124
pins: 1, 2, 3, 4, 5, 6, 7, 8

## 66200911022
designator P?  (value not drawn)
WR-MPC3 THT Male Right Angled Header with Plastic Pegs, pitch 3mm, 9p; Manufacturer: Wurth Elektronik; Contact Resistance: 10mOhm; Insulation Resistance: >1000MOhm; Rated Current: 5A; Working Voltage: 250V (AC); Manufacturer Part Number: 66200911022; Category: Wire-to-Board Connectors; Match Code: WR-MPC3; ComponentLink1Description: Website Link; ComponentLink1URL: https://www.we-online.com/redexpert/article/66200911022?ad; ComponentLink2Description: Datasheet Link; ComponentLink2URL: https://www.we-online.com/redexpert/spec/66200911022?ad; Mount: Through Hole; Operating Temperature Max: 105°C; Operating Temperature Min: -40°C; Packaging: Tube; Length: 30.65mm; Width: 9.9mm; Height: 5.57mm; Gender: Male; Number of Pins: 9; Number of Rows: 1; Orientation: Right Angled; Pitch: 3mm
footprint 66200911022
pins: 1, 2, 3, 4, 5, 6, 7, 8, 9

## 66200911122
designator P?  (value not drawn)
WR-MPC3 THT Male Vertical Header, pitch 3mm, 9p; Manufacturer: Wurth Elektronik; Contact Resistance: 10mOhm; Insulation Resistance: >1000MOhm; Rated Current: 5A; Working Voltage: 250V (AC); Manufacturer Part Number: 66200911122; Category: Wire-to-Board Connectors; Match Code: WR-MPC3; ComponentLink1Description: Website Link; ComponentLink1URL: https://www.we-online.com/redexpert/article/66200911122?ad; ComponentLink2Description: Datasheet Link; ComponentLink2URL: https://www.we-online.com/redexpert/spec/66200911122?ad; Mount: Through Hole; Operating Temperature Max: 105°C; Operating Temperature Min: -40°C; Packaging: Tube; Length: 30.65mm; Width: 5.57mm; Height: 11mm; Gender: Male; Number of Pins: 9; Number of Rows: 1; Orientation: Vertical; Pitch: 3mm
footprint 66200911122
pins: 1, 2, 3, 4, 5, 6, 7, 8, 9

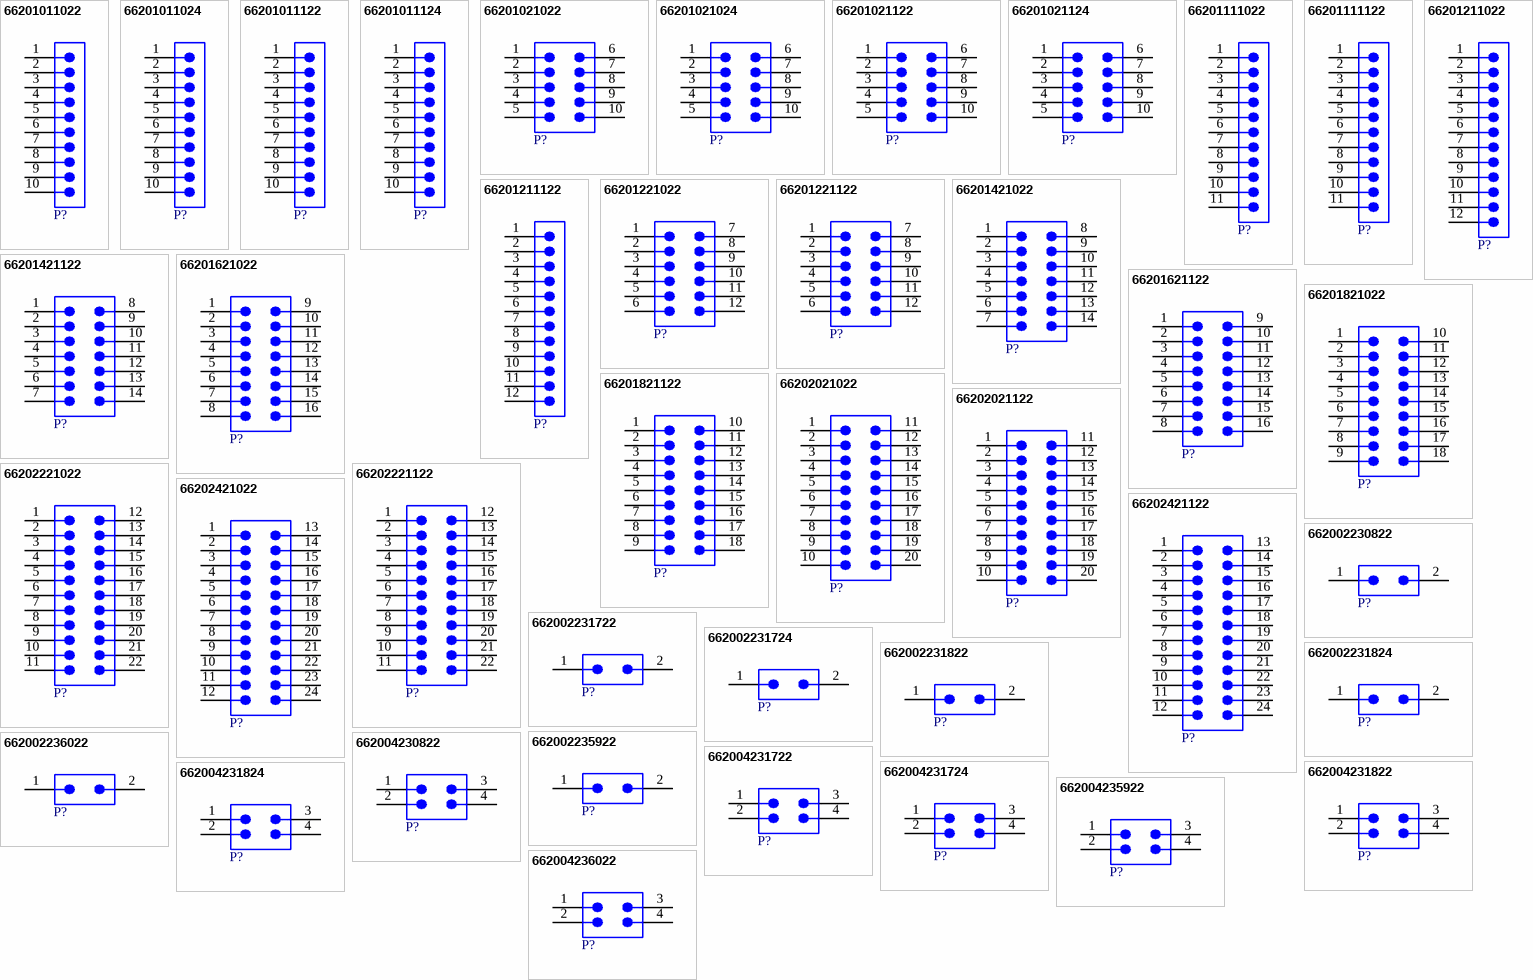
[diagram p1: symbols 66201011022 to 662004236022]

## 66201011022
designator P?  (value not drawn)
WR-MPC3 THT Male Right Angled Header with Plastic Pegs, pitch 3mm, 10p; Manufacturer: Wurth Elektronik; Contact Resistance: 10mOhm; Insulation Resistance: >1000MOhm; Rated Current: 5A; Working Voltage: 250V (AC); Manufacturer Part Number: 66201011022; Category: Wire-to-Board Connectors; Match Code: WR-MPC3; ComponentLink1Description: Website Link; ComponentLink1URL: https://www.we-online.com/redexpert/article/66201011022?ad; ComponentLink2Description: Datasheet Link; ComponentLink2URL: https://www.we-online.com/redexpert/spec/66201011022?ad; Mount: Through Hole; Operating Temperature Max: 105°C; Operating Temperature Min: -40°C; Packaging: Tube; Length: 33.65mm; Width: 9.9mm; Height: 5.57mm; Gender: Male; Number of Pins: 10; Number of Rows: 1; Orientation: Right Angled; Pitch: 3mm
footprint 66201011022
pins: 1, 2, 3, 4, 5, 6, 7, 8, 9, 10

## 66201011024
designator P?  (value not drawn)
WR-MPC3 THT Male Header Single Row Right Angled with Plastic Pegs (Selective Gold), pitch 3mm, 10p; Manufacturer: Wurth Elektronik; Contact Resistance: 10mOhm; Insulation Resistance: >1000MOhm; Rated Current: 5A; Working Voltage: 250V (AC); Manufacturer Part Number: 66201011024; Category: Wire-to-Board Connectors; Match Code: WR-MPC3; ComponentLink1Description: Website Link; ComponentLink1URL: https://www.we-online.com/redexpert/article/66201011024?ad; ComponentLink2Description: Datasheet Link; ComponentLink2URL: https://www.we-online.com/redexpert/spec/66201011024?ad; Mount: Through Hole; Operating Temperature Max: 105°C; Operating Temperature Min: -40°C; Packaging: Tube; Gender: Male; Number of Pins: 10; Number of Rows: 1; Orientation: Right Angled; Pitch: 3mm
footprint 66201011024
pins: 1, 2, 3, 4, 5, 6, 7, 8, 9, 10

## 66201011122
designator P?  (value not drawn)
WR-MPC3 THT Male Vertical Header, pitch 3mm, 10p; Manufacturer: Wurth Elektronik; Contact Resistance: 10mOhm; Insulation Resistance: >1000MOhm; Rated Current: 5A; Working Voltage: 250V (AC); Manufacturer Part Number: 66201011122; Category: Wire-to-Board Connectors; Match Code: WR-MPC3; ComponentLink1Description: Website Link; ComponentLink1URL: https://www.we-online.com/redexpert/article/66201011122?ad; ComponentLink2Description: Datasheet Link; ComponentLink2URL: https://www.we-online.com/redexpert/spec/66201011122?ad; Mount: Through Hole; Operating Temperature Max: 105°C; Operating Temperature Min: -40°C; Packaging: Tube; Length: 33.65mm; Width: 5.57mm; Height: 11mm; Gender: Male; Number of Pins: 10; Number of Rows: 1; Orientation: Vertical; Pitch: 3mm
footprint 66201011122
pins: 1, 2, 3, 4, 5, 6, 7, 8, 9, 10

## 66201011124
designator P?  (value not drawn)
WR-MPC3 THT Male Header Single Row Vertical (Selective Gold), pitch 3mm, 10p; Manufacturer: Wurth Elektronik; Contact Resistance: 10mOhm; Insulation Resistance: >1000MOhm; Rated Current: 5A; Working Voltage: 250V (AC); Manufacturer Part Number: 66201011124; Category: Wire-to-Board Connectors; Match Code: WR-MPC3; ComponentLink1Description: Website Link; ComponentLink1URL: https://www.we-online.com/redexpert/article/66201011124?ad; ComponentLink2Description: Datasheet Link; ComponentLink2URL: https://www.we-online.com/redexpert/spec/66201011124?ad; Mount: Through Hole; Operating Temperature Max: 105°C; Operating Temperature Min: -40°C; Packaging: Tube; Gender: Male; Number of Pins: 10; Number of Rows: 1; Orientation: Vertical; Pitch: 3mm
footprint 66201011124
pins: 1, 2, 3, 4, 5, 6, 7, 8, 9, 10

## 66201021022
designator P?  (value not drawn)
WR-MPC3 THT Male Right Angled Header with Plastic Pegs, pitch 3mm, 10p; Manufacturer: Wurth Elektronik; Contact Resistance: 10mOhm; Insulation Resistance: >1000MOhm; Rated Current: 5A; Working Voltage: 250V (AC); Manufacturer Part Number: 66201021022; Category: Wire-to-Board Connectors; Match Code: WR-MPC3; ComponentLink1Description: Website Link; ComponentLink1URL: https://www.we-online.com/redexpert/article/66201021022?ad; ComponentLink2Description: Datasheet Link; ComponentLink2URL: https://www.we-online.com/redexpert/spec/66201021022?ad; Mount: Through Hole; Operating Temperature Max: 105°C; Operating Temperature Min: -40°C; Packaging: Tube; Length: 18.7mm; Width: 9.9mm; Height: 8.76mm; Gender: Male; Number of Pins: 10; Number of Rows: 2; Orientation: Right Angled; Pitch: 3mm
footprint 66201021022
pins: 1, 2, 3, 4, 5, 6, 7, 8, 9, 10

## 66201021024
designator P?  (value not drawn)
WR-MPC3 THT Male Header Dual Row Right Angled with Plastic Pegs (Selective Gold), pitch 3mm, 10p; Manufacturer: Wurth Elektronik; Contact Resistance: 10mOhm; Insulation Resistance: >1000MOhm; Rated Current: 5A; Working Voltage: 250V (AC); Manufacturer Part Number: 66201021024; Category: Wire-to-Board Connectors; Match Code: WR-MPC3; ComponentLink1Description: Website Link; ComponentLink1URL: https://www.we-online.com/redexpert/article/66201021024?ad; ComponentLink2Description: Datasheet Link; ComponentLink2URL: https://www.we-online.com/redexpert/spec/66201021024?ad; Mount: Through Hole; Operating Temperature Max: 105°C; Operating Temperature Min: -40°C; Packaging: Tube; Gender: Male; Number of Pins: 10; Number of Rows: 2; Orientation: Right Angled; Pitch: 3mm
footprint 66201021024
pins: 1, 2, 3, 4, 5, 6, 7, 8, 9, 10

## 66201021122
designator P?  (value not drawn)
WR-MPC3 THT Male Vertical Header, pitch 3mm, 10p; Manufacturer: Wurth Elektronik; Contact Resistance: 10mOhm; Insulation Resistance: >1000MOhm; Rated Current: 5A; Working Voltage: 250V (AC); Manufacturer Part Number: 66201021122; Category: Wire-to-Board Connectors; Match Code: WR-MPC3; ComponentLink1Description: Website Link; ComponentLink1URL: https://www.we-online.com/redexpert/article/66201021122?ad; ComponentLink2Description: Datasheet Link; ComponentLink2URL: https://www.we-online.com/redexpert/spec/66201021122?ad; Mount: Through Hole; Operating Temperature Max: 105°C; Operating Temperature Min: -40°C; Packaging: Tube; Length: 18.7mm; Width: 8.76mm; Height: 11.05mm; Gender: Male; Number of Pins: 10; Number of Rows: 2; Orientation: Vertical; Pitch: 3mm
footprint 66201021122
pins: 1, 2, 3, 4, 5, 6, 7, 8, 9, 10

## 66201021124
designator P?  (value not drawn)
WR-MPC3 THT Male Header Dual Row Vertical (Selective Gold), pitch 3mm, 10p; Manufacturer: Wurth Elektronik; Contact Resistance: 10mOhm; Insulation Resistance: >1000MOhm; Rated Current: 5A; Working Voltage: 250V (AC); Manufacturer Part Number: 66201021124; Category: Wire-to-Board Connectors; Match Code: WR-MPC3; ComponentLink1Description: Website Link; ComponentLink1URL: https://www.we-online.com/redexpert/article/66201021124?ad; ComponentLink2Description: Datasheet Link; ComponentLink2URL: https://www.we-online.com/redexpert/spec/66201021124?ad; Mount: Through Hole; Operating Temperature Max: 105°C; Operating Temperature Min: -40°C; Packaging: Tube; Gender: Male; Number of Pins: 10; Number of Rows: 2; Orientation: Vertical; Pitch: 3mm
footprint 66201021124
pins: 1, 2, 3, 4, 5, 6, 7, 8, 9, 10

## 66201111022
designator P?  (value not drawn)
WR-MPC3 THT Male Right Angled Header with Plastic Pegs, pitch 3mm, 11p; Manufacturer: Wurth Elektronik; Contact Resistance: 10mOhm; Insulation Resistance: >1000MOhm; Rated Current: 5A; Working Voltage: 250V (AC); Manufacturer Part Number: 66201111022; Category: Wire-to-Board Connectors; Match Code: WR-MPC3; ComponentLink1Description: Website Link; ComponentLink1URL: https://www.we-online.com/redexpert/article/66201111022?ad; ComponentLink2Description: Datasheet Link; ComponentLink2URL: https://www.we-online.com/redexpert/spec/66201111022?ad; Mount: Through Hole; Operating Temperature Max: 105°C; Operating Temperature Min: -40°C; Packaging: Tube; Length: 36.65mm; Width: 9.9mm; Height: 5.57mm; Gender: Male; Number of Pins: 11; Number of Rows: 1; Orientation: Right Angled; Pitch: 3mm
footprint 66201111022
pins: 1, 2, 3, 4, 5, 6, 7, 8, 9, 10, 11

## 66201111122
designator P?  (value not drawn)
WR-MPC3 THT Male Vertical Header, pitch 3mm, 11p; Manufacturer: Wurth Elektronik; Contact Resistance: 10mOhm; Insulation Resistance: >1000MOhm; Rated Current: 5A; Working Voltage: 250V (AC); Manufacturer Part Number: 66201111122; Category: Wire-to-Board Connectors; Match Code: WR-MPC3; ComponentLink1Description: Website Link; ComponentLink1URL: https://www.we-online.com/redexpert/article/66201111122?ad; ComponentLink2Description: Datasheet Link; ComponentLink2URL: https://www.we-online.com/redexpert/spec/66201111122?ad; Mount: Through Hole; Operating Temperature Max: 105°C; Operating Temperature Min: -40°C; Packaging: Tube; Length: 36.65mm; Width: 5.57mm; Height: 11mm; Gender: Male; Number of Pins: 11; Number of Rows: 1; Orientation: Vertical; Pitch: 3mm
footprint 66201111122
pins: 1, 2, 3, 4, 5, 6, 7, 8, 9, 10, 11

## 66201211022
designator P?  (value not drawn)
WR-MPC3 THT Male Right Angled Header with Plastic Pegs, pitch 3mm, 12p; Manufacturer: Wurth Elektronik; Contact Resistance: 10mOhm; Insulation Resistance: >1000MOhm; Rated Current: 5A; Working Voltage: 250V (AC); Manufacturer Part Number: 66201211022; Category: Wire-to-Board Connectors; Match Code: WR-MPC3; ComponentLink1Description: Website Link; ComponentLink1URL: https://www.we-online.com/redexpert/article/66201211022?ad; ComponentLink2Description: Datasheet Link; ComponentLink2URL: https://www.we-online.com/redexpert/spec/66201211022?ad; Mount: Through Hole; Operating Temperature Max: 105°C; Operating Temperature Min: -40°C; Packaging: Tube; Length: 39.65mm; Width: 9.9mm; Height: 5.57mm; Gender: Male; Number of Pins: 12; Number of Rows: 1; Orientation: Right Angled; Pitch: 3mm
footprint 66201211022
pins: 1, 2, 3, 4, 5, 6, 7, 8, 9, 10, 11, 12

## 66201211122
designator P?  (value not drawn)
WR-MPC3 THT Male Vertical Header, pitch 3mm, 12p; Manufacturer: Wurth Elektronik; Contact Resistance: 10mOhm; Insulation Resistance: >1000MOhm; Rated Current: 5A; Working Voltage: 250V (AC); Manufacturer Part Number: 66201211122; Category: Wire-to-Board Connectors; Match Code: WR-MPC3; ComponentLink1Description: Website Link; ComponentLink1URL: https://www.we-online.com/redexpert/article/66201211122?ad; ComponentLink2Description: Datasheet Link; ComponentLink2URL: https://www.we-online.com/redexpert/spec/66201211122?ad; Mount: Through Hole; Operating Temperature Max: 105°C; Operating Temperature Min: -40°C; Packaging: Tube; Length: 39.65mm; Width: 5.57mm; Height: 11mm; Gender: Male; Number of Pins: 12; Number of Rows: 1; Orientation: Vertical; Pitch: 3mm
footprint 66201211122
pins: 1, 2, 3, 4, 5, 6, 7, 8, 9, 10, 11, 12

## 66201221022
designator P?  (value not drawn)
WR-MPC3 THT Male Right Angled Header with Plastic Pegs, pitch 3mm, 12p; Manufacturer: Wurth Elektronik; Contact Resistance: 10mOhm; Insulation Resistance: >1000MOhm; Rated Current: 5A; Working Voltage: 250V (AC); Manufacturer Part Number: 66201221022; Category: Wire-to-Board Connectors; Match Code: WR-MPC3; ComponentLink1Description: Website Link; ComponentLink1URL: https://www.we-online.com/redexpert/article/66201221022?ad; ComponentLink2Description: Datasheet Link; ComponentLink2URL: https://www.we-online.com/redexpert/spec/66201221022?ad; Mount: Through Hole; Operating Temperature Max: 105°C; Operating Temperature Min: -40°C; Packaging: Tube; Length: 21.7mm; Width: 9.9mm; Height: 8.76mm; Gender: Male; Number of Pins: 12; Number of Rows: 2; Orientation: Right Angled; Pitch: 3mm
footprint 66201221022
pins: 1, 2, 3, 4, 5, 6, 7, 8, 9, 10, 11, 12

## 66201221122
designator P?  (value not drawn)
WR-MPC3 THT Male Vertical Header, pitch 3mm, 12p; Manufacturer: Wurth Elektronik; Contact Resistance: 10mOhm; Insulation Resistance: >1000MOhm; Rated Current: 5A; Working Voltage: 250V (AC); Manufacturer Part Number: 66201221122; Category: Wire-to-Board Connectors; Match Code: WR-MPC3; ComponentLink1Description: Website Link; ComponentLink1URL: https://www.we-online.com/redexpert/article/66201221122?ad; ComponentLink2Description: Datasheet Link; ComponentLink2URL: https://www.we-online.com/redexpert/spec/66201221122?ad; Mount: Through Hole; Operating Temperature Max: 105°C; Operating Temperature Min: -40°C; Packaging: Tube; Length: 21.7mm; Width: 8.76mm; Height: 11.05mm; Gender: Male; Number of Pins: 12; Number of Rows: 2; Orientation: Vertical; Pitch: 3mm
footprint 66201221122
pins: 1, 2, 3, 4, 5, 6, 7, 8, 9, 10, 11, 12

## 66201421022
designator P?  (value not drawn)
WR-MPC3 THT Male Right Angled Header with Plastic Pegs, pitch 3mm, 14p; Manufacturer: Wurth Elektronik; Contact Resistance: 10mOhm; Insulation Resistance: >1000MOhm; Rated Current: 5A; Working Voltage: 250V (AC); Manufacturer Part Number: 66201421022; Category: Wire-to-Board Connectors; Match Code: WR-MPC3; ComponentLink1Description: Website Link; ComponentLink1URL: https://www.we-online.com/redexpert/article/66201421022?ad; ComponentLink2Description: Datasheet Link; ComponentLink2URL: https://www.we-online.com/redexpert/spec/66201421022?ad; Mount: Through Hole; Operating Temperature Max: 105°C; Operating Temperature Min: -40°C; Packaging: Tube; Length: 24.7mm; Width: 9.9mm; Height: 8.76mm; Gender: Male; Number of Pins: 14; Number of Rows: 2; Orientation: Right Angled; Pitch: 3mm
footprint 66201421022
pins: 1, 2, 3, 4, 5, 6, 7, 8, 9, 10, 11, 12, 13, 14

## 66201421122
designator P?  (value not drawn)
WR-MPC3 THT Male Vertical Header, pitch 3mm, 14p; Manufacturer: Wurth Elektronik; Contact Resistance: 10mOhm; Insulation Resistance: >1000MOhm; Rated Current: 5A; Working Voltage: 250V (AC); Manufacturer Part Number: 66201421122; Category: Wire-to-Board Connectors; Match Code: WR-MPC3; ComponentLink1Description: Website Link; ComponentLink1URL: https://www.we-online.com/redexpert/article/66201421122?ad; ComponentLink2Description: Datasheet Link; ComponentLink2URL: https://www.we-online.com/redexpert/spec/66201421122?ad; Mount: Through Hole; Operating Temperature Max: 105°C; Operating Temperature Min: -40°C; Packaging: Tube; Length: 24.7mm; Width: 8.76mm; Height: 11.05mm; Gender: Male; Number of Pins: 14; Number of Rows: 2; Orientation: Vertical; Pitch: 3mm
footprint 66201421122
pins: 1, 2, 3, 4, 5, 6, 7, 8, 9, 10, 11, 12, 13, 14

## 66201621022
designator P?  (value not drawn)
WR-MPC3 THT Male Right Angled Header with Plastic Pegs, pitch 3mm, 16p; Manufacturer: Wurth Elektronik; Contact Resistance: 10mOhm; Insulation Resistance: >1000MOhm; Rated Current: 5A; Working Voltage: 250V (AC); Manufacturer Part Number: 66201621022; Category: Wire-to-Board Connectors; Match Code: WR-MPC3; ComponentLink1Description: Website Link; ComponentLink1URL: https://www.we-online.com/redexpert/article/66201621022?ad; ComponentLink2Description: Datasheet Link; ComponentLink2URL: https://www.we-online.com/redexpert/spec/66201621022?ad; Mount: Through Hole; Operating Temperature Max: 105°C; Operating Temperature Min: -40°C; Packaging: Tube; Length: 27.7mm; Width: 9.9mm; Height: 8.76mm; Gender: Male; Number of Pins: 16; Number of Rows: 2; Orientation: Right Angled; Pitch: 3mm
footprint 66201621022
pins: 1, 2, 3, 4, 5, 6, 7, 8, 9, 10, 11, 12, 13, 14, 15, 16